# Altium schematic symbol library Schlib4.SchLib: 1 symbol
Pins are listed as number, name and electrical type; pins without a type are passive.

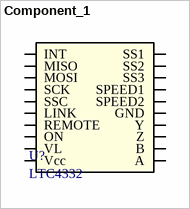
[diagram p0: symbol Component_1]

## Component_1
designator U?, comment LTC4332
footprint LTC4332
pins: 1 Vcc, 2 VL, 3 ON, 4 REMOTE, 5 LINK, 6 SSC, 7 SCK, 8 MOSI, 9 MISO, 10 INT, 11 SS1, 12 SS2, 13 SS3, 14 SPEED1, 15 SPEED2, 16 GND, 17 Y, 18 Z, 19 B, 20 A